# EAGLE library part ALPS403 (library akihabara)
Alps rotary switch. For mounting on the bottom side.
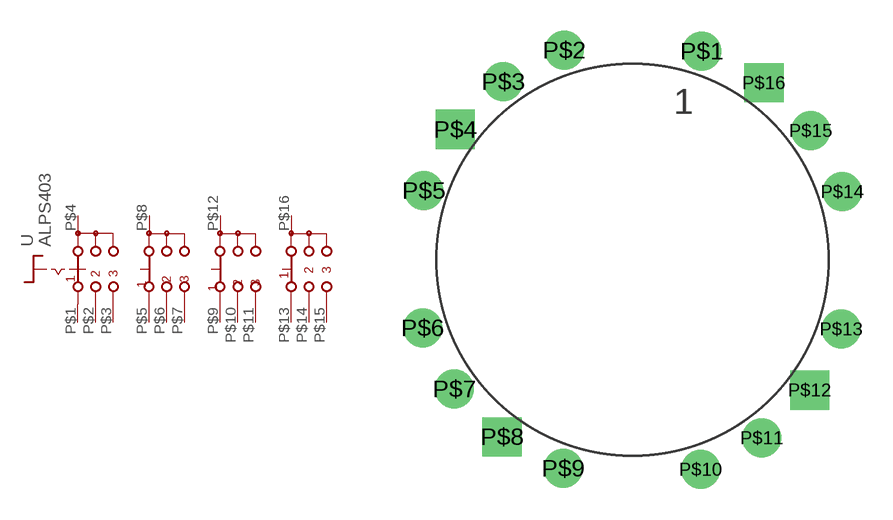
[diagram p2: symbol with the pads of ALPS403; footprint ALPS403]

Designator prefix -

## ALPS403  [ALPS403]
P$1  A1  pas
P$2  A2  pas
P$3  A3  pas
P$4  A  pas
P$5  B1  pas
P$6  B2  pas
P$7  B3  pas
P$8  B  pas
P$9  C1  pas
P$10  C2  pas
P$11  C3  pas
P$12  C  pas
P$13  D1  pas
P$14  D2  pas
P$15  D3  pas
P$16  D  pas

## Footprint ALPS403 (pad centres in mm)
drill 0.4 pad 1.93 round: P$1 3.4,10.25; P$2 -3.35,10.3; P$3 -6.35,8.75; P$5 -10.25,3.4; P$6 -10.3,-3.35; P$7 -8.75,-6.35; P$9 -3.4,-10.25; P$10 3.35,-10.3; P$11 6.35,-8.75; P$13 10.25,-3.4; P$14 10.3,3.35; P$15 8.75,6.35
drill 0.4 pad 1.93 square: P$4 -8.7,6.4; P$8 -6.4,-8.7; P$12 8.7,-6.4; P$16 6.45,8.7